# Altium schematic symbol library Транзистор GaN FETs.SchLib: 1 symbol
Pins are listed as number, name and electrical type; pins without a type are passive.

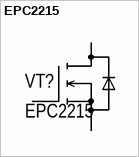
[diagram p0: symbol EPC2215]

## EPC2215
designator VT?
N-Channel 200 V 32A (Ta) - Surface Mount Die; Manufacture: EPC; Name: Транзистор; HelpURL: https://www.digikey.com/en/products/detail/epc/EPC2215/9960320; Model: EPC2215; Case: Die Size: 4.6 mm x 1.6 mm; Value: EPC2215
footprint Die Size: 4.6 mm x 1.6 mm
pins: 1 G, 2 D, 3 S